# EAGLE library part STM32_NUCLEO-68_WB (library STM32WB)
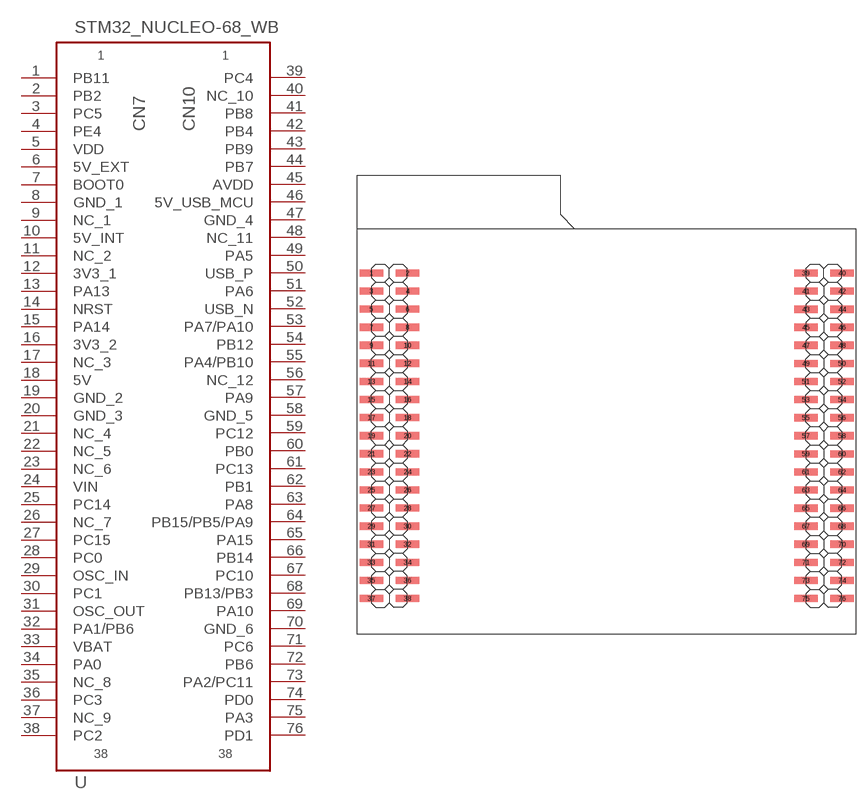
[diagram p0: symbol with the pads of STM32_NUCLEO-68_FOOTPRINT; footprint STM32_NUCLEO-68_FOOTPRINT]

Designator prefix -

## STM32_NUCLEO-68_WB  [STM32_NUCLEO-68_FOOTPRINT]
1  PB11
2  PB2
3  PC5
4  PE4
5  VDD  sup
6  5V_EXT  sup
7  BOOT0
8  GND_1  sup
9  NC_1  nc
10  5V_INT  sup
11  NC_2  nc
12  3V3_1  sup
13  PA13
14  NRST
15  PA14
16  3V3_2  sup
17  NC_3  nc
18  5V  sup
19  GND_2  sup
20  GND_3  sup
21  NC_4  nc
22  NC_5  nc
23  NC_6  nc
24  VIN  sup
25  PC14
26  NC_7  nc
27  PC15
28  PC0
29  OSC_IN
30  PC1
31  OSC_OUT
32  PA1/PB6
33  VBAT  sup
34  PA0
35  NC_8  nc
36  PC3
37  NC_9  nc
38  PC2
39  PC4
40  NC_10  nc
41  PB8
42  PB4
43  PB9
44  PB7
45  AVDD  sup
46  5V_USB_MCU  sup
47  GND_4  sup
48  NC_11  nc
49  PA5
50  USB_P
51  PA6
52  USB_N
53  PA7/PA10
54  PB12
55  PA4/PB10
56  NC_12  nc
57  PA9
58  GND_5  sup
59  PC12
60  PB0
61  PC13
62  PB1
63  PA8
64  PB15/PB5/PA9
65  PA15
66  PB14
67  PC10
68  PB13/PB3
69  PA10
70  GND_6  sup
71  PC6
72  PB6
73  PA2/PC11
74  PD0
75  PA3
76  PD1

## Footprint STM32_NUCLEO-68_FOOTPRINT (pad centres in mm)
PIN HEADER - 2.54 SMD
smd 3.302 x 1.016: 1 -33.006,22.25; 2 -27.926,22.25; 3 -33.006,19.71; 4 -27.926,19.71; 5 -33.006,17.17; 6 -27.926,17.17; 7 -33.006,14.63; 8 -27.926,14.63; 9 -33.006,12.09; 10 -27.926,12.09; 11 -33.006,9.55; 12 -27.926,9.55; 13 -33.006,7.01; 14 -27.926,7.01; 15 -33.006,4.47; 16 -27.926,4.47; 17 -33.006,1.93; 18 -27.926,1.93; 19 -33.006,-0.61; 20 -27.926,-0.61; 21 -33.006,-3.15; 22 -27.926,-3.15; 23 -33.006,-5.69; 24 -27.926,-5.69; 25 -33.006,-8.23; 26 -27.926,-8.23; 27 -33.006,-10.77; 28 -27.926,-10.77; 29 -33.006,-13.31; 30 -27.926,-13.31; 31 -33.006,-15.85; 32 -27.926,-15.85; 33 -33.006,-18.39; 34 -27.926,-18.39; 35 -33.006,-20.93; 36 -27.926,-20.93; 37 -33.006,-23.47; 38 -27.926,-23.47; 39 27.988,22.24; 40 33.068,22.24; 41 27.988,19.7; 42 33.068,19.7; 43 27.988,17.16; 44 33.068,17.16; 45 27.988,14.62; 46 33.068,14.62; 47 27.988,12.08; 48 33.068,12.08; 49 27.988,9.54; 50 33.068,9.54; 51 27.988,7; 52 33.068,7; 53 27.988,4.46; 54 33.068,4.46; 55 27.988,1.92; 56 33.068,1.92; 57 27.988,-0.62; 58 33.068,-0.62; 59 27.988,-3.16; 60 33.068,-3.16; 61 27.988,-5.7; 62 33.068,-5.7; 63 27.988,-8.24; 64 33.068,-8.24; 65 27.988,-10.78; 66 33.068,-10.78; 67 27.988,-13.32; 68 33.068,-13.32; 69 27.988,-15.86; 70 33.068,-15.86; 71 27.988,-18.4; 72 33.068,-18.4; 73 27.988,-20.94; 74 33.068,-20.94; 75 27.988,-23.48; 76 33.068,-23.48